# Altium footprint library OL_1206_3216.pcblib: 1 footprints
Each footprint in its own frame and in the unit in brackets; x right, y up, seen from the top. Pads: shape width x height; smd on the part's side, far side on the other; paste and mask are expansions set on the pad; w line width, h text height; cw(c..) or ccw(c..) is an arc to the next point about the centre after c.
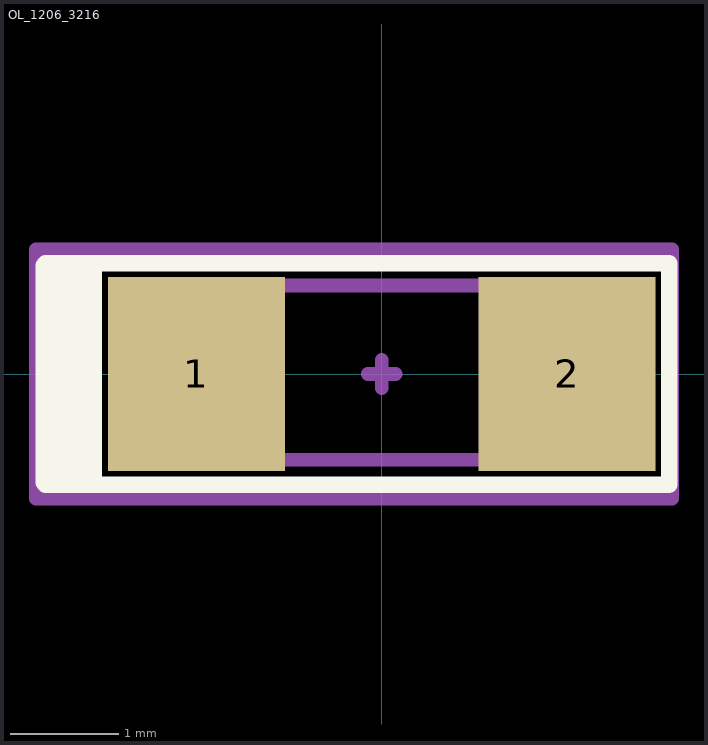
[diagram p0: the footprint, top view; thin cyan lines are the x and y axes]

## OL_1206_3216 [mil]
pads (2):
  rect 64x70 smd: 1(-67,0) 2(67,0)
Top Overlay:
  rectangle: -122.12,-39.37 -104.4,39.37
  lines w6: -94.56,40 -121.49,40 -122.12,39.37 -122.12,-39.37 -121.49,-40 -90.62,-40 ; -104,-40 -104,40 -35,40 104,40 104,-40 -104,-40
Mechanical 13:
  lines w5: -69.99,-30.99 56,-30.99 56,32.01 -69.99,32.01 -69.99,-30.99
Mechanical 15:
  lines w5: -5,0 5,0 ; 0,-5 0,5 ; -125,-45 105,-45 105,45 -125,45 -125,-45
Mechanical 17:
  text "'.Designator'" at -55,-5 h15
Mechanical 19:
  text "'.Comment'" at -55,-5 h15
3D body "SW3dPS-LED1206G.STEP": height 43.81, standoff -15.9, extent -69.99,-30.99 56,32.01